# EAGLE library part OPAMP-QUAD-RC4136 (library ryans-common-components)
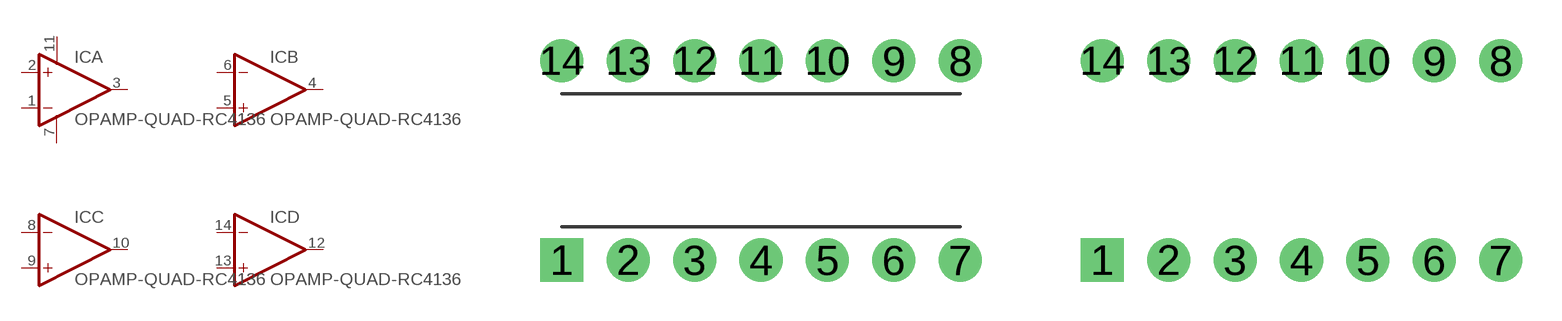
[diagram p13: symbol with the pads of DIP14; footprints DIP14, DIP14-SOCKET]

Designator prefix IC; gates A=OPAMP-MULT-A B=OPAMP-MULT-X C=OPAMP-MULT-X D=OPAMP-MULT-X

## OPAMP-QUAD-RC4136-DIP14  [DIP14]
1  A:IN-
2  A:IN+
3  A:OUT
4  B:OUT
5  B:IN+
6  B:IN-
7  A:V-
8  C:IN-
9  C:IN+
10  C:OUT
11  A:V+
12  D:OUT
13  D:IN+
14  D:IN-

## OPAMP-QUAD-RC4136-DIP14-SOCKET  [DIP14-SOCKET]
Pads as for DIP14

## Footprint DIP14 (pad centres in mm)
drill 0.8 pad 1.651 square: 1 -7.62,-3.81
drill 0.8 pad 1.651: 2 -5.08,-3.81; 3 -2.54,-3.81; 4 0,-3.81; 5 2.54,-3.81; 6 5.08,-3.81; 7 7.62,-3.81; 8 7.62,3.81; 9 5.08,3.81; 10 2.54,3.81; 11 0,3.81; 12 -2.54,3.81; 13 -5.08,3.81; 14 -7.62,3.81

## Footprint DIP14-SOCKET (pad centres in mm)
drill 0.8 pad 1.651 square: 1 -7.62,-3.81
drill 0.8 pad 1.651: 2 -5.08,-3.81; 3 -2.54,-3.81; 4 0,-3.81; 5 2.54,-3.81; 6 5.08,-3.81; 7 7.62,-3.81; 8 7.62,3.81; 9 5.08,3.81; 10 2.54,3.81; 11 0,3.81; 12 -2.54,3.81; 13 -5.08,3.81; 14 -7.62,3.81